# Altium schematic symbol library Diode.SchLib: 12 symbols
Pins are listed as number, name and electrical type; pins without a type are passive.

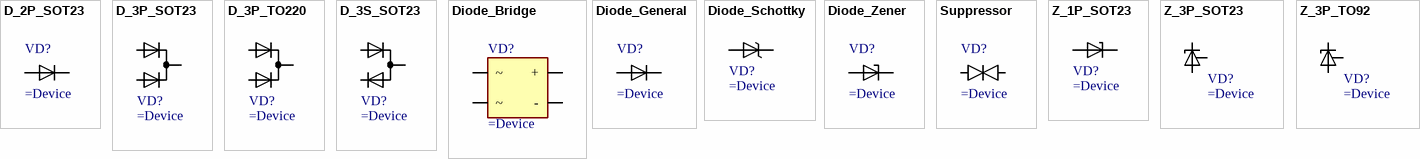
[diagram p0: symbols D_2P_SOT23 to Z_3P_TO92]

## D_2P_SOT23
designator VD?
pins: 1 A, 3 K

## D_3P_SOT23
designator VD?
pins: 1 A, 2 A, 3 K

## D_3P_TO220
designator VD?
pins: 1 A, 2 K, 3 A

## D_3S_SOT23
designator VD?
pins: 1 A, 2 K, 3 C

## Diode_Bridge
designator VD?
pins: AC1 ~, AC2 ~, N -, P +

## Diode_General
designator VD?
pins: A, K

## Diode_Schottky
designator VD?
pins: A, K

## Diode_Zener
designator VD?
pins: A, K

## Suppressor
designator VD?
pins: A, K

## Z_1P_SOT23
designator VD?
pins: 1 A, 3 K

## Z_3P_SOT23
designator VD?
pins: 1 K, 2 REF, 3 A

## Z_3P_TO92
designator VD?
pins: 1 K, 2 A, 3 REF